# EAGLE library part MCP2515 (library HyTechDevices)
MCP2515 CAN Controller with SPI Interface Datasheet <http://ww1.microchip.com/downloads/en/DeviceDoc/21801G.pdf>
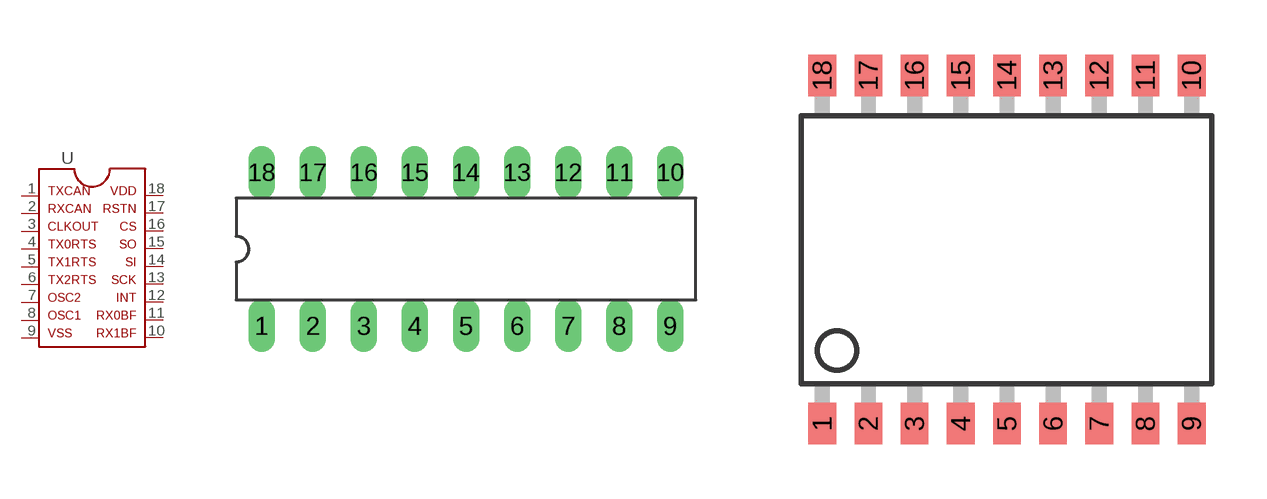
[diagram p28: symbol with the pads of DIL18; footprints DIL18, SOIC-18W]

Designator prefix -

## MCP2515  [DIL18]
1  TXCAN  pas
2  RXCAN  pas
3  CLKOUT  pas
4  TX0RTS  pas
5  TX1RTS  pas
6  TX2RTS  pas
7  OSC2  pas
8  OSC1  pas
9  VSS  pas
10  RX1BF  pas
11  RX0BF  pas
12  INT  pas
13  SCK  pas
14  SI  pas
15  SO  pas
16  CS  pas
17  RSTN  pas
18  VDD  pas

## MCP2515SMD  [SOIC-18W]
Pads as for DIL18

## MCP2515TSSOP  [TSSOP-20]
1  TXCAN  pas
2  RXCAN  pas
3  CLKOUT  pas
4  TX0RTS  pas
5  TX1RTS  pas
7  TX2RTS  pas
8  OSC2  pas
9  OSC1  pas
10  VSS  pas
11  RX1BF  pas
12  RX0BF  pas
13  INT  pas
14  SCK  pas
16  SI  pas
17  SO  pas
18  CS  pas
19  RSTN  pas
20  VDD  pas

## Footprint DIL18 (pad centres in mm)
Dual In Line package type P
drill 0.813 long: 1 -10.16,-3.81; 2 -7.62,-3.81; 3 -5.08,-3.81; 4 -2.54,-3.81; 5 0,-3.81; 6 2.54,-3.81; 7 5.08,-3.81; 8 7.62,-3.81; 9 10.16,-3.81; 10 10.16,3.81; 11 7.62,3.81; 12 5.08,3.81; 13 2.54,3.81; 14 0,3.81; 15 -2.54,3.81; 16 -5.08,3.81; 17 -7.62,3.81; 18 -10.16,3.81

## Footprint SOIC-18W (pad centres in mm)
Small Outline Wide Plastic Gull Wing 300-mil body, package type SO
smd 0.762 x 1.143: 1 -5.08,-4.788; 2 -3.81,-4.788; 3 -2.54,-4.788; 4 -1.27,-4.788; 5 0,-4.788; 6 1.27,-4.788; 7 2.54,-4.788; 8 3.81,-4.788; 9 5.08,-4.788; 10 5.08,4.788; 11 3.81,4.788; 12 2.54,4.788; 13 1.27,4.788; 14 0,4.788; 15 -1.27,4.788; 16 -2.54,4.788; 17 -3.81,4.788; 18 -5.08,4.788

## Footprint TSSOP-20 (pad centres in mm)
24-Lead Thin Shrink Small Outline Package TSSOP (RU-24) Source: http://www.analog.com/UploadedFiles/Data_Sheets/39677768AD7714_c.pdf
smd 0.45 x 1.1: 1 -2.925,-2.618; 2 -2.275,-2.618; 3 -1.625,-2.618; 4 -0.975,-2.618; 5 -0.325,-2.618; 6 0.325,-2.618; 7 0.975,-2.618; 8 1.625,-2.618; 9 2.275,-2.618; 10 2.925,-2.618; 11 2.925,2.918; 12 2.275,2.918; 13 1.625,2.918; 14 0.975,2.918; 15 0.325,2.918; 16 -0.325,2.918; 17 -0.975,2.918; 18 -1.625,2.918; 19 -2.275,2.918; 20 -2.925,2.918